# EAGLE library part CSK-H2 (library APU_Motherboard_Library)
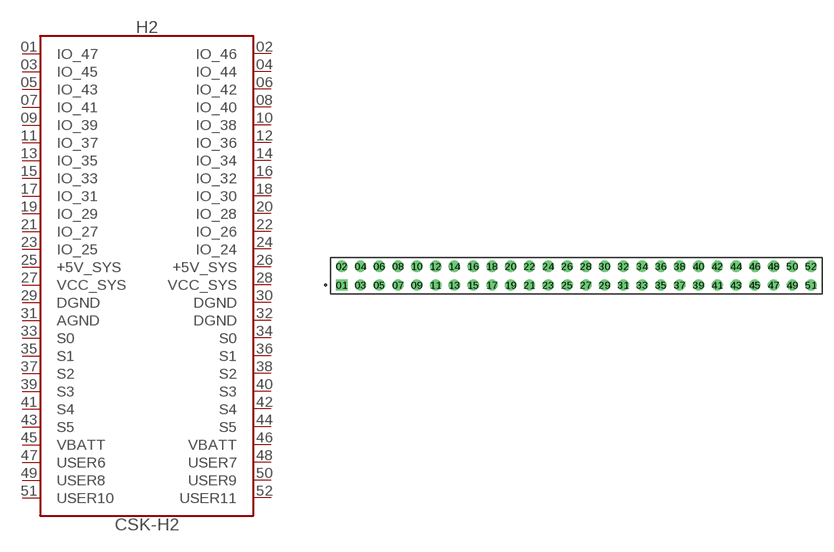
[diagram p4: symbol with the pads of SAMTEC_ESQ-126-37-G-D--NUMBERED-FOR-CUBESAT-BUS; footprint SAMTEC_ESQ-126-37-G-D--NUMBERED-FOR-CUBESAT-BUS]

Designator prefix H2

## CSK-H2  [SAMTEC_ESQ-126-37-G-D--NUMBERED-FOR-CUBESAT-BUS]
01  IO_47
02  IO_46
03  IO_45
04  IO_44
05  IO_43
06  IO_42
07  IO_41
08  IO_40
09  IO_39
10  IO_38
11  IO_37
12  IO_36
13  IO_35
14  IO_34
15  IO_33
16  IO_32
17  IO_31
18  IO_30
19  IO_29
20  IO_28
21  IO_27
22  IO_26
23  IO_25
24  IO_24
25  +5V_SYS
26  +5V_SYS
27  VCC_SYS
28  VCC_SYS
29  DGND
30  DGND
31  AGND
32  DGND
33  S0
34  S0
35  S1
36  S1
37  S2
38  S2
39  S3
40  S3
41  S4
42  S4
43  S5
44  S5
45  VBATT
46  VBATT
47  USER6
48  USER7
49  USER8
50  USER9
51  USER10
52  USER11

## Footprint SAMTEC_ESQ-126-37-G-D--NUMBERED-FOR-CUBESAT-BUS (pad centres in mm)
drill 1.02 pad 1.37 square: 01 0,0
drill 1.02 pad 1.37: 02 0,2.54; 03 2.54,0; 04 2.54,2.54; 05 5.08,0; 06 5.08,2.54; 07 7.62,0; 08 7.62,2.54; 09 10.16,0; 10 10.16,2.54; 11 12.7,0; 12 12.7,2.54; 13 15.24,0; 14 15.24,2.54; 15 17.78,0; 16 17.78,2.54; 17 20.32,0; 18 20.32,2.54; 19 22.86,0; 20 22.86,2.54; 21 25.4,0; 22 25.4,2.54; 23 27.94,0; 24 27.94,2.54; 25 30.48,0; 26 30.48,2.54; 27 33.02,0; 28 33.02,2.54; 29 35.56,0; 30 35.56,2.54; 31 38.1,0; 32 38.1,2.54; 33 40.64,0; 34 40.64,2.54; 35 43.18,0; 36 43.18,2.54; 37 45.72,0; 38 45.72,2.54; 39 48.26,0; 40 48.26,2.54; 41 50.8,0; 42 50.8,2.54; 43 53.34,0; 44 53.34,2.54; 45 55.88,0; 46 55.88,2.54; 47 58.42,0; 48 58.42,2.54; 49 60.96,0; 50 60.96,2.54; 51 63.5,0; 52 63.5,2.54